# Altium footprint library SHDRV20W63P254_10X2_3302X914H881.PcbLib: 1 footprints
Each footprint in its own frame and in the unit in brackets; x right, y up, seen from the top. Pads: shape width x height; smd on the part's side, far side on the other; paste and mask are expansions set on the pad; w line width, h text height; cw(c..) or ccw(c..) is an arc to the next point about the centre after c.
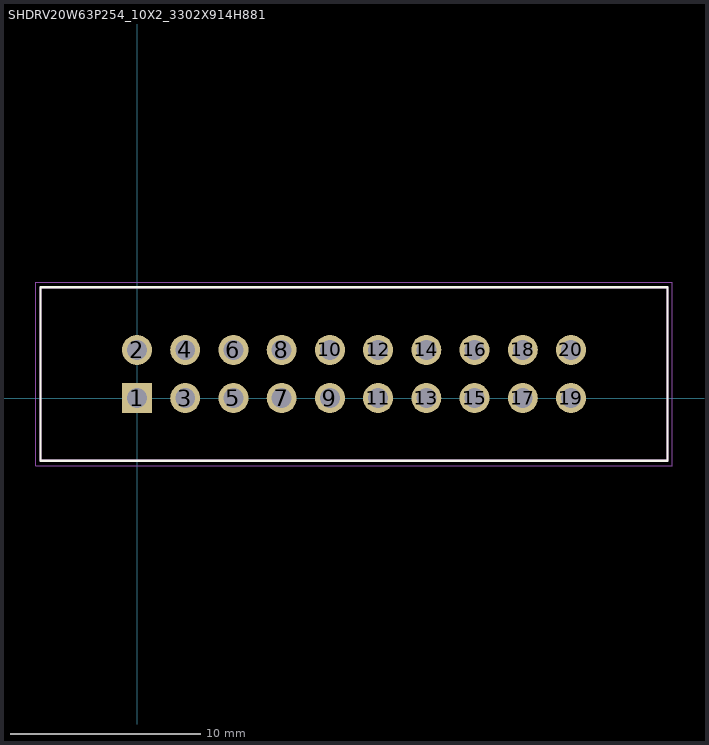
[diagram p0: the footprint, top view; thin cyan lines are the x and y axes]

## SHDRV20W63P254_10X2_3302X914H881 [mm] "Header, Vertical Shrouded, 2.54 mm pitch; 0.635 mm lead width, 20 pins, 2 rows, 10 pins per row, 33.02 mm L X 9.14 mm W X 8.814 mm H body"
height 8.814
pads (20):
  rect 1.58x1.58 / inner round 1.58 / far side rect 1.58x1.58 hole 1.05 paste-1.58: 1(0,0)
  round 1.58 hole 1.05 paste-1.58: 2(0,2.54) 3(2.54,0) 4(2.54,2.54) 5(5.08,0) 6(5.08,2.54) 7(7.62,0) 8(7.62,2.54) 9(10.16,0) 10(10.16,2.54) 11(12.7,0) 12(12.7,2.54) 13(15.24,0) 14(15.24,2.54) 15(17.78,0) 16(17.78,2.54) 17(20.32,0) 18(20.32,2.54) 19(22.86,0) 20(22.86,2.54)
Top Overlay:
  lines w0.12: -5.08,-3.3 27.94,-3.3 27.94,5.84 -5.08,5.84 -5.08,-3.3
Mechanical 1:
  text "'.Designator'" at 5.08,0 h1
Mechanical 3:
  lines w0.12: -5.08,-3.3 27.94,-3.3 27.94,5.84 -5.08,5.84 -5.08,-3.3
Mechanical 5:
  lines w0.025: -5.08,-3.3 27.94,-3.3 27.94,5.84 -5.08,5.84 -5.08,-3.3 ; -0.318,-0.318 0.318,-0.318 0.318,0.318 -0.318,0.318 -0.318,-0.318 ; -0.318,2.222 0.318,2.222 0.318,2.857 -0.318,2.857 -0.318,2.222 ; 2.222,-0.318 2.857,-0.318 2.857,0.318 2.222,0.318 2.222,-0.318 ; 2.222,2.222 2.857,2.222 2.857,2.857 2.222,2.857 2.222,2.222 ; 4.763,-0.318 5.397,-0.318 5.397,0.318 4.763,0.318 4.763,-0.318 ; 4.763,2.222 5.397,2.222 5.397,2.857 4.763,2.857 4.763,2.222 ; 7.302,-0.318 7.938,-0.318 7.938,0.318 7.302,0.318 7.302,-0.318 ; 7.302,2.222 7.938,2.222 7.938,2.857 7.302,2.857 7.302,2.222 ; 9.842,-0.318 10.477,-0.318 10.477,0.318 9.842,0.318 9.842,-0.318 ; 9.842,2.222 10.477,2.222 10.477,2.857 9.842,2.857 9.842,2.222 ; 12.383,-0.318 13.018,-0.318 13.018,0.318 12.383,0.318 12.383,-0.318 ; 12.383,2.222 13.018,2.222 13.018,2.857 12.383,2.857 12.383,2.222 ; 14.922,-0.318 15.557,-0.318 15.557,0.318 14.922,0.318 14.922,-0.318 ; 14.922,2.222 15.557,2.222 15.557,2.857 14.922,2.857 14.922,2.222 ; 17.462,-0.318 18.098,-0.318 18.098,0.318 17.462,0.318 17.462,-0.318 ; 17.462,2.222 18.098,2.222 18.098,2.857 17.462,2.857 17.462,2.222 ; 20.002,-0.318 20.637,-0.318 20.637,0.318 20.002,0.318 20.002,-0.318 ; 20.002,2.222 20.637,2.222 20.637,2.857 20.002,2.857 20.002,2.222 ; 22.543,-0.318 23.177,-0.318 23.177,0.318 22.543,0.318 22.543,-0.318 ; 22.543,2.222 23.177,2.222 23.177,2.857 22.543,2.857 22.543,2.222
Mechanical 7:
  circle w0.05: c0,0 r0.25
  lines w0.05: -0.35,0 0.35,0 ; 0,-0.35 0,0.35 ; -5.33,-3.55 28.19,-3.55 28.19,6.09 -5.33,6.09 -5.33,-3.55
3D body: height 1, standoff 0, extent -5.334,-3.556 28.194,6.096
3D body "c-5103308-5-b-3d.stp": height 9, standoff -3.9, extent -5.08,-3.302 27.94,5.842